# Altium footprint library ES_Class6C_2L.PcbLib: 22 footprints (part 1 of 2)
Each footprint in its own frame and in the unit in brackets; x right, y up, seen from the top. Pads: shape width x height; smd on the part's side, far side on the other; paste and mask are expansions set on the pad; w line width, h text height; cw(c..) or ccw(c..) is an arc to the next point about the centre after c.
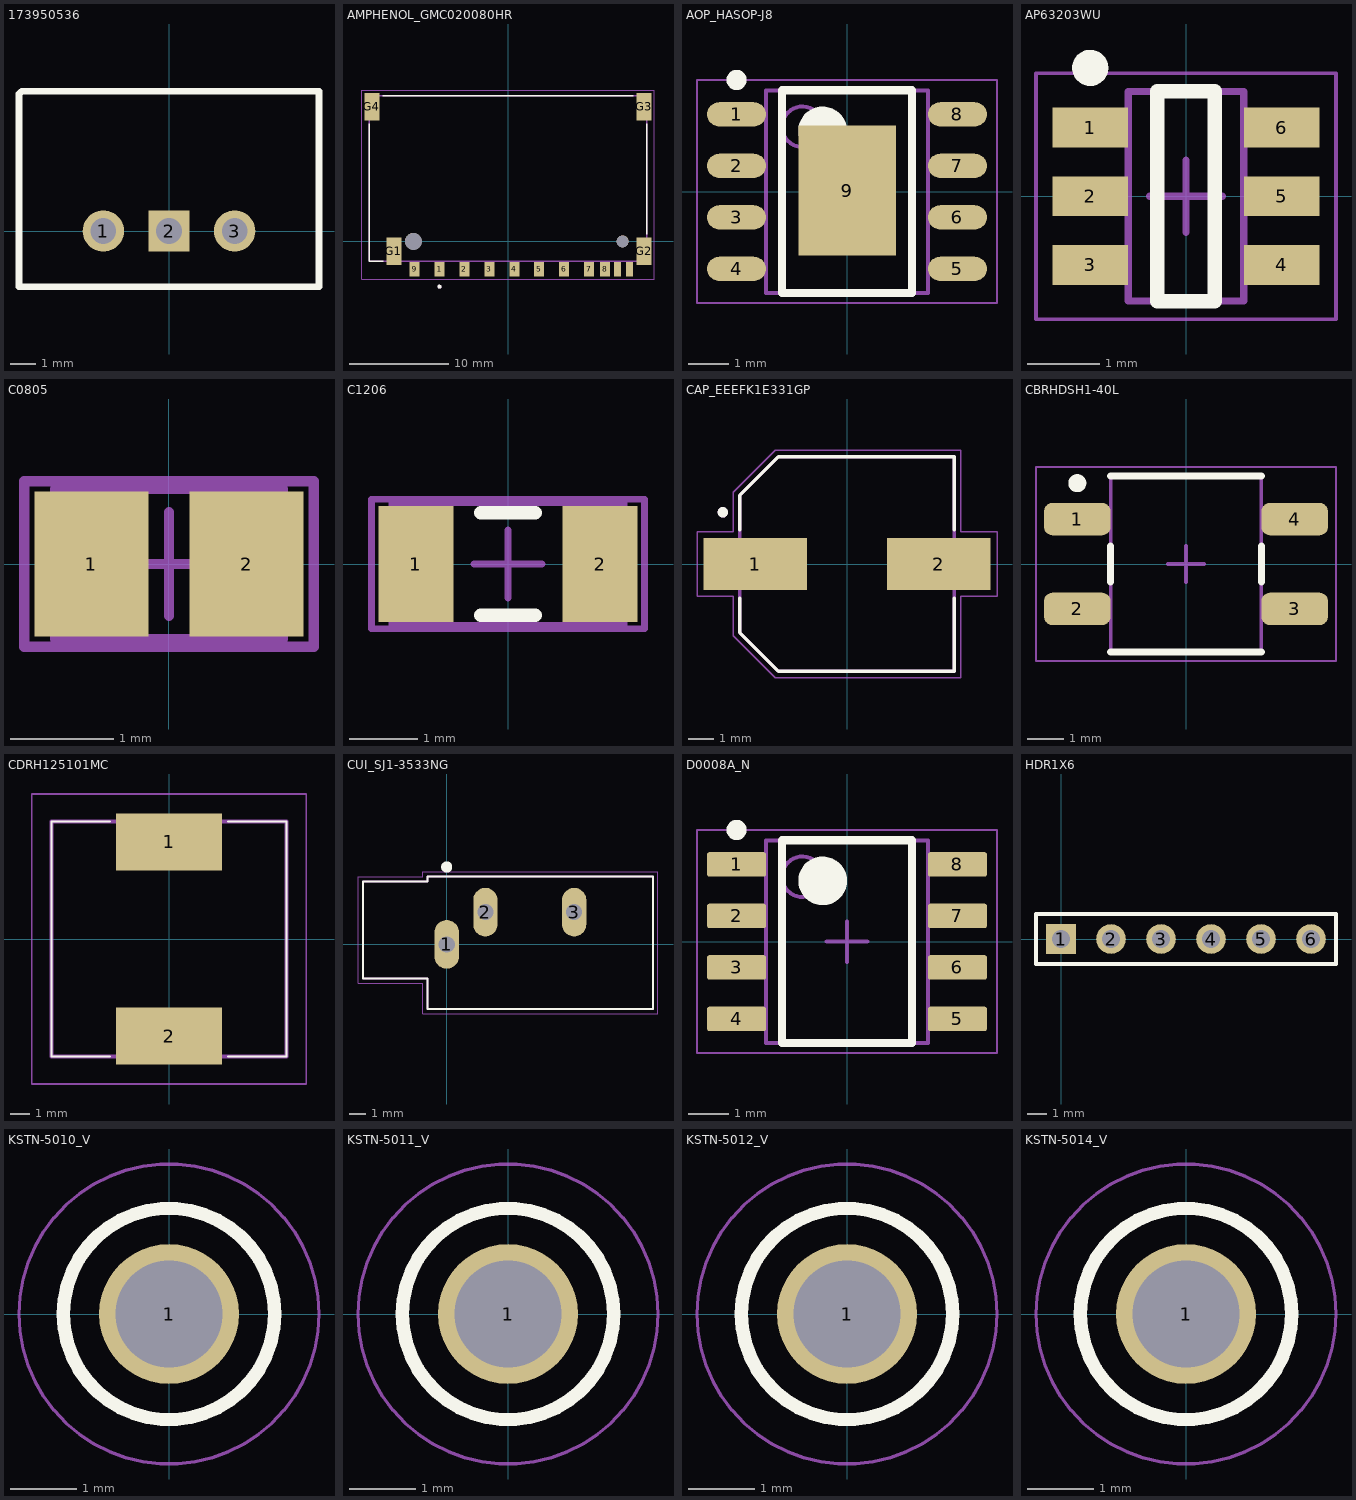
[diagram p0: the footprints below, top view; thin cyan lines are the x and y axes]

## 173950536 [mm]
pads (3):
  round 1.6 hole 1: 1(-2.54,0) 3(2.54,0)
  rect 1.6x1.6 hole 1: 2(0,0)
Top Overlay:
  lines w0.254: -5.8,-2.15 -5.8,5.3 ; -5.8,-2.15 5.8,-2.15 ; -5.8,-2.15 5.8,-2.15 ; -5.8,-2.15 -5.8,5.3 ; -5.8,5.3 -5.7,5.4 ; -5.8,5.3 -5.7,5.4 ; -5.7,5.4 5.8,5.4 ; -5.7,5.4 5.8,5.4 ; 5.8,-2.15 5.8,5.4 ; 5.8,-2.15 5.8,5.4

## AMPHENOL_GMC020080HR [mm]
height 2.87
pads (17):
  rect 1x1.5 smd: 1(-6.87,-2.8) 2(-4.37,-2.8) 3(-1.87,-2.8) 4(0.63,-2.8) 5(3.13,-2.8) 6(5.63,-2.8) 7(8.13,-2.8) 8(9.75,-2.8) 9(-9.37,-2.8)
  rect 0.7x1.5 smd: 10(10.97,-2.8) 11(12.18,-2.8)
  rect 1.5x2.8 smd: G1(-11.45,-1) G2(13.65,-1) G3(13.65,13.5) G4(-13.65,13.5)
  round 1.7 hole 1.7 unplated: ""(-9.5,0)
  round 1.2 hole 1.2 unplated: ""(11.5,0)
Top Overlay:
  circle w0.2: c-6.87,-4.55 r0.1
  lines w0.127: -13.9,11.78 -13.9,-2 -12.52,-2 ; -12.58,14.6 12.58,14.6 ; 13.9,0.72 13.9,11.78
Mechanical 13:
  circle w0.2: c-6.87,-4.55 r0.1
  lines w0.127: -13.9,-2 13.9,-2 13.9,14.6 -13.9,14.6 -13.9,-2
Mechanical 15:
  lines w0.05: -14.65,-3.8 -14.65,15.15 14.65,15.15 14.65,-3.8 -14.65,-3.8

## AOP_HASOP-J8 [mm] "TSOP, 8-Leads, Body 4,90x3,90mm, Pitch 1,27mm, IPC Medium Density"
height 1
pads (9):
  oval 1.45x0.6 smd: 1(-2.725,1.905) 2(-2.725,0.635) 3(-2.725,-0.635) 4(-2.725,-1.905) 5(2.725,-1.905) 6(2.725,-0.635) 7(2.725,0.635) 8(2.725,1.905)
  rect 2.4x3.2 smd: 9(0.007,0.025)
Top Overlay:
  circle w0.25: c-2.725,2.755 r0.125
  circle w0.6: c-0.6,1.5 r0.3
  lines w0.2: -1.6,-2.5 -1.6,2.5 1.6,2.5 1.6,-2.5 -1.6,-2.5
Mechanical 13:
  circle w0.1: c-1.1,1.6 r0.5
  lines w0.1: -2,-2.5 -2,2.5 2,2.5 2,-2.5 -2,-2.5
Mechanical 15:
  lines w0.05: -3.7,-2.75 -3.7,2.75 3.7,2.75 3.7,-2.75 -3.7,-2.75
  lines w0.1: -0.5,0 0.5,0 ; 0,-0.5 0,0.5
3D body: height 1, standoff 0.08, extent -2,-2.5 2,2.5

## AP63203WU [mm] "SOT23, 6-Leads, Body 2,85x2,80mm, Pitch 0,95mm, IPC Medium Density"
height 1
pads (6):
  rect 1.05x0.55 smd: 1(-1.325,0.95) 2(-1.325,0) 3(-1.325,-0.95) 4(1.325,-0.95) 5(1.325,0) 6(1.325,0.95)
Top Overlay:
  circle w0.25: c-1.325,1.775 r0.125
  lines w0.2: -0.4,-1.45 0.4,-1.45 0.4,1.45 -0.4,1.45 -0.4,-1.45
Mechanical 13:
  lines w0.1: -0.8,-1.45 -0.8,1.45 0.8,1.45 0.8,-1.45 -0.8,-1.45
Mechanical 15:
  lines w0.05: -2.075,-1.7 -2.075,1.7 2.075,1.7 2.075,-1.7 -2.075,-1.7
  lines w0.1: -0.5,0 0.5,0 ; 0,-0.5 0,0.5
3D body: height 1, standoff 0.01, extent -0.8,-1.45 0.8,1.45

## C0805 [mm] "Chip Capacitor, Body 2.0x1.3mm, IPC High Density"
height 1.4
pads (2):
  rect 1.1x1.4 smd: 1(-0.75,0) 2(0.75,0)
Mechanical 13:
  lines w0.1: -1.1,-0.725 1.1,-0.725 1.1,0.725 -1.1,0.725 -1.1,-0.725
Mechanical 15:
  lines w0.1: -0.5,0 0.5,0 ; 0,-0.5 0,0.5 ; -1.4,-0.8 1.4,-0.8 1.4,0.8 -1.4,0.8 -1.4,-0.8
3D body: height 1.4, standoff 0, extent -1.1,-0.725 1.1,0.725

## C1206 [mm] "Chip Capacitor, Body 3.2x1.6mm, IPC High Density"
height 1.3
pads (2):
  rect 1.1x1.7 smd: 1(-1.35,0) 2(1.35,0)
Top Overlay:
  lines w0.2: -0.4,-0.75 0.4,-0.75 ; -0.4,0.75 0.4,0.75
Mechanical 13:
  lines w0.1: -1.7,-0.9 1.7,-0.9 1.7,0.9 -1.7,0.9 -1.7,-0.9
Mechanical 15:
  lines w0.1: -0.5,0 0.5,0 ; 0,-0.5 0,0.5 ; -2,-0.95 2,-0.95 2,0.95 -2,0.95 -2,-0.95
3D body: height 1.3, standoff 0, extent -1.7,-0.9 1.7,0.9

## CAP_EEEFK1E331GP [mm]
height 10.2
pads (2):
  rect 4x2 smd: 1(-3.55,0) 2(3.55,0)
Top Overlay:
  circle w0.2: c-4.8,2 r0.1
  lines w0.127: -4.15,-1.32 -4.15,-2.65 -2.65,-4.15 4.15,-4.15 4.15,-1.32 ; -4.15,1.32 -4.15,2.65 -2.65,4.15 4.15,4.15 4.15,1.32
Mechanical 13:
  circle w0.2: c-4.8,2 r0.1
  lines w0.127: -4.15,-2.65 -4.15,2.65 -2.65,4.15 4.15,4.15 4.15,-4.15 -2.65,-4.15 -4.15,-2.65
Mechanical 15:
  lines w0.05: -5.8,-1.25 -4.4,-1.25 -4.4,-2.775 -2.775,-4.4 4.4,-4.4 4.4,-1.25 5.8,-1.25 5.8,1.25 4.4,1.25 4.4,4.4 -2.775,4.4 -4.4,2.775 -4.4,1.25 -5.8,1.25 -5.8,-1.25
3D body "step_temp.STEP": height 10.2, standoff 0, extent -4.85,-4.15 4.85,4.15

## CBRHDSH1-40L [mm] "SOT143, 4-Leads, Body 4,70x7,00mm, Pitch 2,50mm, IPC Medium Density"
height 2.5
pads (4):
  rrect50% 1.85x0.9 smd: 1(-3.025,1.25) 2(-3.025,-1.25) 3(3.025,-1.25) 4(3.025,1.25)
Top Overlay:
  circle w0.25: c-3.025,2.25 r0.125
  lines w0.2: -2.1,-2.45 2.1,-2.45 ; -2.1,-0.5 -2.1,0.5 ; -2.1,2.45 2.1,2.45 ; 2.1,-0.5 2.1,0.5
Mechanical 13:
  lines w0.1: -2.1,-2.45 -2.1,2.45 2.1,2.45 2.1,-2.45 -2.1,-2.45
Mechanical 15:
  lines w0.05: -4.175,-2.7 -4.175,2.7 4.175,2.7 4.175,-2.7 -4.175,-2.7
  lines w0.1: -0.5,0 0.5,0 ; 0,-0.5 0,0.5
3D body: height 2.5, standoff 0.2, extent -2.1,-2.45 2.1,2.45

## CDRH125101MC [mm]
pads (2):
  rect 5.4x2.9 smd: 1(0,4.95) 2(0,-4.95)
Top Overlay:
  lines w0.1: -3,-6 -6,-6 -6,6 -3,6 ; 3,-6 6,-6 6,6 3,6
Mechanical 15:
  lines w0.2: -6,-6 6,-6 6,6 -6,6 -6,-6
Bottom Assembly:
  lines w0.1: -7,-7.4 7,-7.4 7,7.4 -7,7.4 -7,-7.4

## CUI_SJ1-3533NG [mm]
pads (3):
  oval 1.508x3.016 hole 1 square: 1(0,0) 2(2.4,2) 3(7.9,2)
Top Overlay:
  circle w0.34: c0,4.8 r0.17
  lines w0.127: -5.2,-2.1 -1.2,-2.1 -1.2,-4 12.8,-4 12.8,4.2 -1.2,4.2 -1.2,3.9 -5.2,3.9 -5.2,-2.1
Mechanical 13:
  lines w0.127: -5.2,-2.1 -1.2,-2.1 -1.2,-4 12.8,-4 12.8,4.2 -1.2,4.2 -1.2,3.9 -5.2,3.9 -5.2,-2.1
Mechanical 15:
  lines w0.05: -5.5,-2.4 -1.5,-2.4 -1.5,-4.3 13.1,-4.3 13.1,4.5 -1.5,4.5 -1.5,4.2 -5.5,4.2 -5.5,-2.4

## D0008A_N [mm] "SOIC, 8-Leads, Body 5x4mm, Pitch 1.27mm, IPC Medium Density"
height 1.75
pads (8):
  rrect17% 1.45x0.6 smd: 1(-2.725,1.905) 2(-2.725,0.635) 3(-2.725,-0.635) 4(-2.725,-1.905) 5(2.725,-1.905) 6(2.725,-0.635) 7(2.725,0.635) 8(2.725,1.905)
Top Overlay:
  circle w0.6: c-0.6,1.5 r0.3
  circle w0.25: c-2.725,2.755 r0.125
  lines w0.2: -1.6,-2.5 1.6,-2.5 1.6,2.5 -1.6,2.5 -1.6,-2.5
Mechanical 1:
  text ".Designator" at -1.397,-0.254 h0.6
Mechanical 13:
  circle w0.1: c-1.1,1.6 r0.5
  lines w0.1: -2,-2.5 2,-2.5 2,2.5 -2,2.5 -2,-2.5
Mechanical 15:
  lines w0.05: -3.7,-2.75 3.7,-2.75 3.7,2.75 -3.7,2.75 -3.7,-2.75
  lines w0.1: -0.5,0 0.5,0 ; 0,-0.5 0,0.5
3D body "SOIC-8akaD0008AakaM08A.stp": height 1.63, standoff 0, extent -3,-2.45 3,2.45

## HDR1X6 [mm] "Connector; Header; 6 Position"
pads (6):
  rect 1.5x1.5 hole 0.9: 1(0,0)
  round 1.5 hole 0.9: 2(2.54,0) 3(5.08,0) 4(7.62,0) 5(10.16,0) 6(12.7,0)
Top Overlay:
  lines w0.2: -1.27,-1.27 -1.27,1.27 13.97,1.27 13.97,-1.27 -1.27,-1.27

## KSTN-5010_V [mm] "Test Point, Dia 3.17mm"
height 8.28
pads (1):
  round 2.1 hole 1.6: 1(0,0)
Top Overlay:
  circle w0.2: c0,0 r1.585
Mechanical 13:
  circle w0.1: c0,0 r1.585
Mechanical 15:
  circle w0.05: c0,0 r2.25
  lines w0.1: -0.5,0 0.5,0 ; 0,-0.5 0,0.5
3D body "keystone-PN5010.STEP": height 8.13, standoff -3.17, extent -1.587,-1.587 1.588,1.588

## KSTN-5011_V [mm] "Test Point, Dia 3.17mm"
height 8.28
pads (1):
  round 2.1 hole 1.6: 1(0,0)
Top Overlay:
  circle w0.2: c0,0 r1.585
Mechanical 13:
  circle w0.1: c0,0 r1.585
Mechanical 15:
  circle w0.05: c0,0 r2.25
  lines w0.1: -0.5,0 0.5,0 ; 0,-0.5 0,0.5
3D body "keystone-PN5011.STEP": height 8.13, standoff -3.17, extent -1.587,-1.587 1.588,1.588

## KSTN-5012_V [mm] "Test Point, Dia 3.17mm"
height 8.28
pads (1):
  round 2.1 hole 1.6: 1(0,0)
Top Overlay:
  circle w0.2: c0,0 r1.585
Mechanical 13:
  circle w0.1: c0,0 r1.585
Mechanical 15:
  circle w0.05: c0,0 r2.25
  lines w0.1: -0.5,0 0.5,0 ; 0,-0.5 0,0.5
3D body "keystone-PN5012.Stp": height 8.13, standoff -3.17, extent -1.587,-1.587 1.588,1.588

## KSTN-5014_V [mm] "Test Point, Dia 3.17mm"
height 8.28
pads (1):
  round 2.1 hole 1.6: 1(0,0)
Top Overlay:
  circle w0.2: c0,0 r1.585
Mechanical 13:
  circle w0.1: c0,0 r1.585
Mechanical 15:
  circle w0.05: c0,0 r2.25
  lines w0.1: -0.5,0 0.5,0 ; 0,-0.5 0,0.5
3D body "keystone-PN5014.STEP": height 8.13, standoff -3.17, extent -1.587,-1.587 1.588,1.588